# EAGLE library part AL2-4EYT (library e-sps)
AL2 4EYT Transistor-Ausgang MITSUBISHI Alpha_Installationsanweisung.pdf
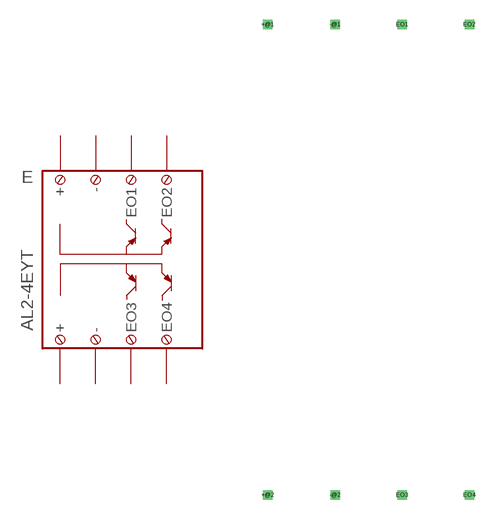
[diagram p19: symbol with the pads of AL2-4EYT; footprint AL2-4EYT]

Designator prefix E

## AL2-4EYT  [AL2-4EYT]
+@1  +  pas
+@2  +  pas
-@1  -  pas
-@2  -  pas
EO1  EO1  pas
EO2  EO2  pas
EO3  EO3  pas
EO4  EO4  pas

## Footprint AL2-4EYT (pad centres in mm)
AL2 4EYT
drill 0.2 pad 0.6 square: +@1 -7.62,17.78; +@2 -7.62,-17.78; -@1 -2.54,17.78; -@2 -2.54,-17.78; EO1 2.54,17.78; EO2 7.62,17.78; EO3 2.54,-17.78; EO4 7.62,-17.78